# Altium footprint library RadioProjectFPLib.PcbLib: 35 footprints (part 2 of 3)
Each footprint in its own frame and in the unit in brackets; x right, y up, seen from the top. Pads: shape width x height; smd on the part's side, far side on the other; paste and mask are expansions set on the pad; w line width, h text height; cw(c..) or ccw(c..) is an arc to the next point about the centre after c.
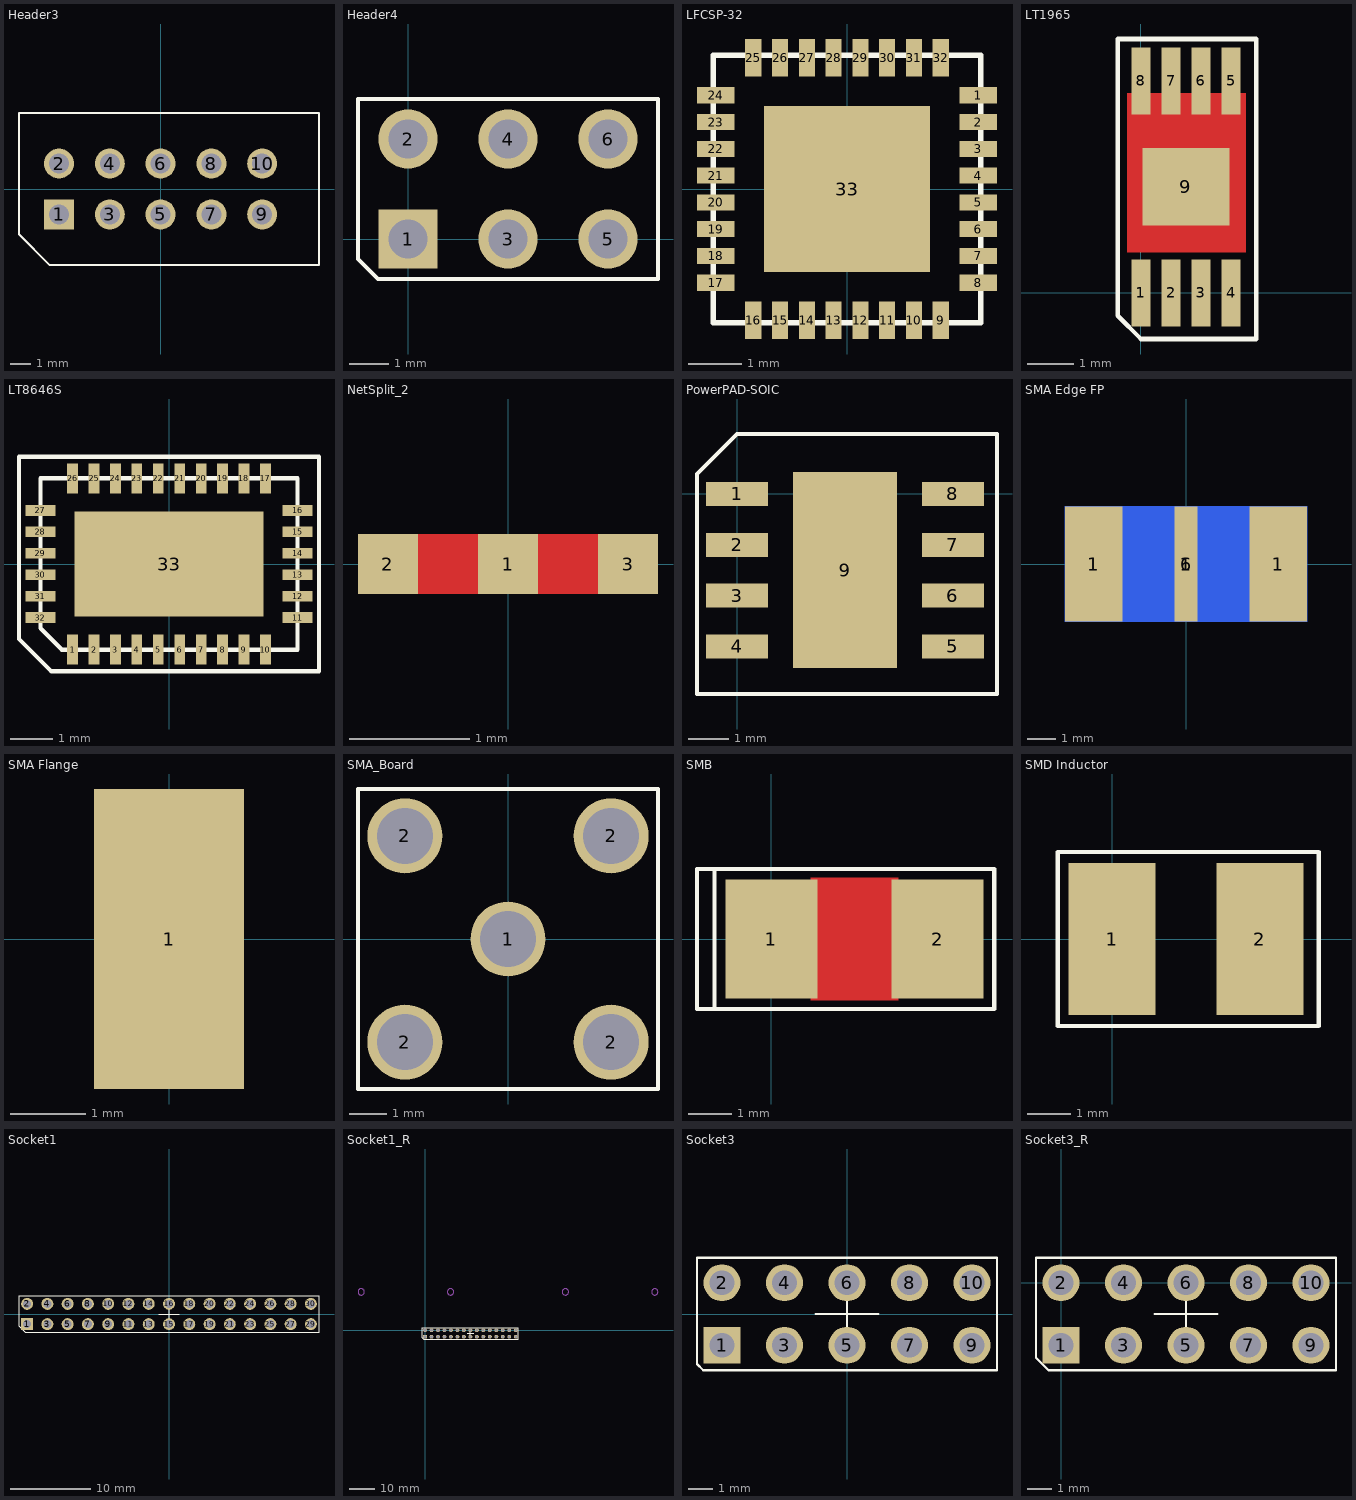
[diagram p1: the footprints below, top view; thin cyan lines are the x and y axes]

## Header3 [mm] "10-Pin DIL"
height 4
pads (10):
  rect 1.5x1.5 hole 1: 1(-5.08,-1.27)
  round 1.5 hole 1: 2(-5.08,1.27) 3(-2.54,-1.27) 4(-2.54,1.27) 5(0,-1.27) 6(0,1.27) 7(2.54,-1.27) 8(2.54,1.27) 9(5.08,-1.27) 10(5.08,1.27)
Top Overlay:
  lines w0.1: -7.08,-2.27 -5.54,-3.81 7.92,-3.81 7.92,3.81 -7.08,3.81 -7.08,-2.27
3D body: height 8, standoff -2, extent 4.435,0.621 5.73,1.919
3D body: height 8, standoff -2, extent 1.895,0.621 3.19,1.919
3D body: height 8, standoff -2, extent -0.645,0.621 0.65,1.919
3D body: height 8, standoff -2, extent -3.185,0.621 -1.89,1.919
3D body: height 8, standoff -2, extent -5.725,0.621 -4.43,1.919
3D body: height 8, standoff -2, extent 4.435,-1.919 5.73,-0.621
3D body: height 8, standoff -2, extent 1.895,-1.919 3.19,-0.621
3D body: height 8, standoff -2, extent -0.645,-1.919 0.65,-0.621
3D body: height 8, standoff -2, extent -3.185,-1.919 -1.89,-0.621
3D body: height 8, standoff -2, extent -5.725,-1.919 -4.43,-0.621
3D body: height 3, standoff 0, extent -6.58,-3.27 6.92,3.23

## Header4 [mm] "6-Pin DIL"
height 4
pads (6):
  rect 1.5x1.5 hole 1: 1(0,0)
  round 1.5 hole 1: 2(0,2.54) 3(2.54,0) 4(2.54,2.54) 5(5.08,0) 6(5.08,2.54)
Top Overlay:
  lines w0.1: -1.27,-0.508 -1.27,3.556 6.35,3.556 6.35,-1.016 -0.762,-1.016 -1.27,-0.508
3D body: height 3, standoff 0, extent -1.27,-1.016 6.35,3.556
3D body: height 8, standoff -2, extent -0.645,-0.649 0.65,0.649
3D body: height 8, standoff -2, extent 1.895,-0.649 3.19,0.649
3D body: height 8, standoff -2, extent 4.435,-0.649 5.73,0.649
3D body: height 8, standoff -2, extent -0.645,1.891 0.65,3.189
3D body: height 8, standoff -2, extent 1.895,1.891 3.19,3.189
3D body: height 8, standoff -2, extent 4.435,1.891 5.73,3.189

## LFCSP-32 [mm] "32 Pad + Exposed pad gnd"
height 0.8
pads (33):
  rect 0.7x0.3 smd: 1(2.45,1.75) 2(2.45,1.25) 3(2.45,0.75) 4(2.45,0.25) 5(2.45,-0.25) 6(2.45,-0.75) 7(2.45,-1.25) 8(2.45,-1.75) 17(-2.45,-1.75) 18(-2.45,-1.25) 19(-2.45,-0.75) 20(-2.45,-0.25) 21(-2.45,0.25) 22(-2.45,0.75) 23(-2.45,1.25) 24(-2.45,1.75)
  rect 0.3x0.7 smd: 9(1.75,-2.45) 10(1.25,-2.45) 11(0.75,-2.45) 12(0.25,-2.45) 13(-0.25,-2.45) 14(-0.75,-2.45) 15(-1.25,-2.45) 16(-1.75,-2.45) 25(-1.75,2.45) 26(-1.25,2.45) 27(-0.75,2.45) 28(-0.25,2.45) 29(0.25,2.45) 30(0.75,2.45) 31(1.25,2.45) 32(1.75,2.45)
  rect 3.1x3.1 smd: 33(0,0)
Top Overlay:
  lines w0.1: -2.5,-2.5 2.5,-2.5 2.5,2.5 -2.5,2.5 -2.5,-2.5
3D body: height 0.8, standoff 0, extent -2.5,-2.45 2.5,2.45

## LT1965 [mm] "MSOP-8"
height 1.5
pads (9):
  rect 0.42x1.45 smd: 1(0,0) 2(0.65,0) 3(1.3,0) 4(1.95,0) 5(1.95,4.59) 6(1.3,4.59) 7(0.65,4.59) 8(0,4.59)
  rect 1.88x1.68 smd: 9(0.975,2.3)
Top Layer:
  pour cut-out: -0.3,4.325 2.275,4.325 2.275,0.875 -0.3,0.875
Top Overlay:
  lines w0.1: -0.5,-0.5 -0.5,5.5 2.5,5.5 2.5,-1 0,-1 -0.5,-0.5 ; -0.5,-0.5 -0.5,-0.5
3D body: height 1.5, standoff 0, extent -0.225,0.575 2.175,4.025

## LT8646S [mm] "LQFN-32"
height 2
pads (33):
  rect 0.25x0.7 smd: 1(-2.25,-2) 2(-1.75,-2) 3(-1.25,-2) 4(-0.75,-2) 5(-0.25,-2) 6(0.25,-2) 7(0.75,-2) 8(1.25,-2) 9(1.75,-2) 10(2.25,-2) 17(2.25,2) 18(1.75,2) 19(1.25,2) 20(0.75,2) 21(0.25,2) 22(-0.25,2) 23(-0.75,2) 24(-1.25,2) 25(-1.75,2) 26(-2.25,2)
  rect 0.7x0.25 smd: 11(3,-1.25) 12(3,-0.75) 13(3,-0.25) 14(3,0.25) 15(3,0.75) 16(3,1.25) 27(-3,1.25) 28(-3,0.75) 29(-3,0.25) 30(-3,-0.25) 31(-3,-0.75) 32(-3,-1.25)
  rect 4.4x2.45 smd: 33(0,0)
Top Overlay:
  lines w0.1: -3.5,-1.75 -3.5,2.5 3.5,2.5 3.5,-2.5 -2.75,-2.5 -3.5,-1.75 ; -3,-1.5 -2.5,-2 3,-2 3,2 0,2 -3,2 -3,-1.5
3D body: height 0.2, standoff 0, extent -3,-2 3,2

## NetSplit_2 [mm]
pads (3):
  rect 0.5x0.5 smd: 1(0,0) 2(-1,0) 3(1,0)
Top Layer:
  lines w0.5: -1,0 1,0

## PowerPAD-SOIC [mm] "SOIC-8"
height 1.7
pads (9):
  rect 1.55x0.6 smd: 1(0,0) 2(0,-1.27) 3(0,-2.54) 4(0,-3.81) 5(5.4,-3.81) 6(5.4,-2.54) 7(5.4,-1.27) 8(5.4,0)
  rect 2.6x4.9 smd: 9(2.7,-1.905)
Top Overlay:
  lines w0.1: -1,-5 -1,0.5 0,1.5 6.5,1.5 6.5,-5 -1,-5
3D body: height 1.7, standoff 0, extent 0.7,-4.65 4.7,0.85

## SMA Edge FP [mm] "Edge connector"
height 6.4
pads (4):
  rect 2x4 smd: 1(-3.2,0) 1(3.2,0)
  rect 8.4x4 smd far side: 1(0,0)
  rect 0.8x4 smd: 6(0,0)
3D body: height 3.55, standoff -2.79, extent -3.15,2.03 3.175,9.9
3D body: height 0.76, standoff 0, extent -0.364,-1.78 0.393,2.03
3D body: height 1.2, standoff 0, extent 2.211,-1.805 3.589,2.005
3D body: height 4.5, standoff -3.6, extent -3.6,2.022 3.6,2.779
3D body: height 1.2, standoff 0, extent -3.6,-1.8 -2.221,2.01

## SMA Flange [mm] "Flange Connector"
height 6.4
pads (1):
  rect 2x4 smd: 1(0,0)

## SMA_Board [mm] "SMD THD connector"
height 8
pads (5):
  round 2 hole 1.5: 1(0,0) 2(-2.75,-2.75) 2(-2.75,2.75) 2(2.75,-2.75) 2(2.75,2.75)
Top Overlay:
  lines w0.1: -4,-4 4,-4 4,4 -4,4 -4,-4
3D body: height 0, standoff -3, extent -3.345,-3.349 -2.15,-2.151
3D body: height 0, standoff -3, extent 2.155,2.151 3.35,3.349
3D body: height 0, standoff -3, extent 2.155,-3.349 3.35,-2.151
3D body: height 0, standoff -3, extent -3.345,2.151 -2.15,3.349
3D body: height 8, standoff 2, extent -2.48,-2.495 2.5,2.495
3D body: height 2, standoff 0, extent -3.5,-3.5 3.5,3.5

## SMB [mm] "SMB Diode footprint"
height 4
pads (2):
  rect 2.1x2.72 smd: 1(0,0) 2(3.8,0)
Top Layer:
  pour cut-out: 0.9,1.4 2.9,1.4 2.9,-1.4 0.9,-1.4
Top Overlay:
  lines w0.1: -1.3,-1.6 -1.7,-1.6 -1.7,1.6 -1.3,1.6 ; -1.3,-1.6 -1.3,1.6 ; -1.3,-1.6 5.1,-1.6 5.1,1.6 -1.3,1.6
3D body: height 2, standoff 0, extent -0.8,-1.3 4.7,1.3

## SMD Inductor [mm] "CoilCraft SMD inductor"
height 4
pads (2):
  rect 2x3.5 smd: 1(0,0) 2(3.4,0)
Top Overlay:
  lines w0.1: -1.25,-2 -1.25,2 4.75,2 4.75,-2 -1.25,-2
3D body: height 4, standoff 0, extent -0.1,-1.6 3.4,1.6

## Socket1 [mm] "30-Pin DIL"
height 4
pads (30):
  rect 1.5x1.5 hole 1: 1(-17.78,-1.27)
  round 1.5 hole 1: 2(-17.78,1.27) 3(-15.24,-1.27) 4(-15.24,1.27) 5(-12.7,-1.27) 6(-12.7,1.27) 7(-10.16,-1.27) 8(-10.16,1.27) 9(-7.62,-1.27) 10(-7.62,1.27) 11(-5.08,-1.27) 12(-5.08,1.27) 13(-2.54,-1.27) 14(-2.54,1.27) 15(0,-1.27) 16(0,1.27) 17(2.54,-1.27) 18(2.54,1.27) 19(5.08,-1.27) 20(5.08,1.27) 21(7.62,-1.27) 22(7.62,1.27) 23(10.16,-1.27) 24(10.16,1.27) 25(12.7,-1.27) 26(12.7,1.27) 27(15.24,-1.27) 28(15.24,1.27) 29(17.78,-1.27) 30(17.78,1.27)
Top Overlay:
  lines w0.1: -1.27,0 1.27,0 ; 0,-1.27 0,1.27 ; -18.796,-1.524 -18.796,2.286 18.796,2.286 18.796,-2.286 -18.034,-2.286 -18.796,-1.524
3D body: height 6, standoff 0, extent -18.796,-2.286 18.796,2.286

## Socket1_R [mm] "30-Pin DIL"
height 4
pads (30):
  rect 1.5x1.5 hole 1: 1(0,-2.54)
  round 1.5 hole 1: 2(0,0) 3(2.54,-2.54) 4(2.54,0) 5(5.08,-2.54) 6(5.08,0) 7(7.62,-2.54) 8(7.62,0) 9(10.16,-2.54) 10(10.16,0) 11(12.7,-2.54) 12(12.7,0) 13(15.24,-2.54) 14(15.24,0) 15(17.78,-2.54) 16(17.78,0) 17(20.32,-2.54) 18(20.32,0) 19(22.86,-2.54) 20(22.86,0) 21(25.4,-2.54) 22(25.4,0) 23(27.94,-2.54) 24(27.94,0) 25(30.48,-2.54) 26(30.48,0) 27(33.02,-2.54) 28(33.02,0) 29(35.56,-2.54) 30(35.56,0)
Top Overlay:
  lines w0.1: 16.51,-1.27 19.05,-1.27 ; 17.78,-2.54 17.78,0 ; -1.016,-3.048 -1.016,1.016 36.576,1.016 36.576,-3.556 -0.508,-3.556 -1.016,-3.048
Mechanical 2:
  circle w0.1: c55,15 r1.25
  circle w0.1: c90,15 r1.25
  circle w0.1: c10,15 r1.25
  circle w0.1: c-25,15 r1.25
3D body: height 6, standoff 0, extent -1.016,-3.556 36.576,1.016

## Socket3 [mm] "10-Pin DIL"
height 4
pads (10):
  rect 1.5x1.5 hole 1: 1(-5.08,-1.27)
  round 1.5 hole 1: 2(-5.08,1.27) 3(-2.54,-1.27) 4(-2.54,1.27) 5(0,-1.27) 6(0,1.27) 7(2.54,-1.27) 8(2.54,1.27) 9(5.08,-1.27) 10(5.08,1.27)
Top Overlay:
  lines w0.1: -1.27,0 1.27,0 ; 0,-1.27 0,1.27 ; -6.096,-2.032 -6.096,2.286 6.096,2.286 6.096,-2.286 -5.842,-2.286 -6.096,-2.032
3D body: height 6, standoff 0, extent -6.096,-2.286 6.096,2.286

## Socket3_R [mm] "10-Pin DIL"
height 4
pads (10):
  rect 1.5x1.5 hole 1: 1(0,-2.54)
  round 1.5 hole 1: 2(0,0) 3(2.54,-2.54) 4(2.54,0) 5(5.08,-2.54) 6(5.08,0) 7(7.62,-2.54) 8(7.62,0) 9(10.16,-2.54) 10(10.16,0)
Top Overlay:
  lines w0.1: 3.81,-1.27 6.35,-1.27 ; 5.08,-2.54 5.08,0 ; -1.016,-3.048 -0.508,-3.556 11.176,-3.556 11.176,1.016 -1.016,1.016 -1.016,-3.048
3D body: height 6, standoff 0, extent -1.016,-3.556 11.176,1.016